# EAGLE library part ATSAMD21G18A-AUT (library samdg)
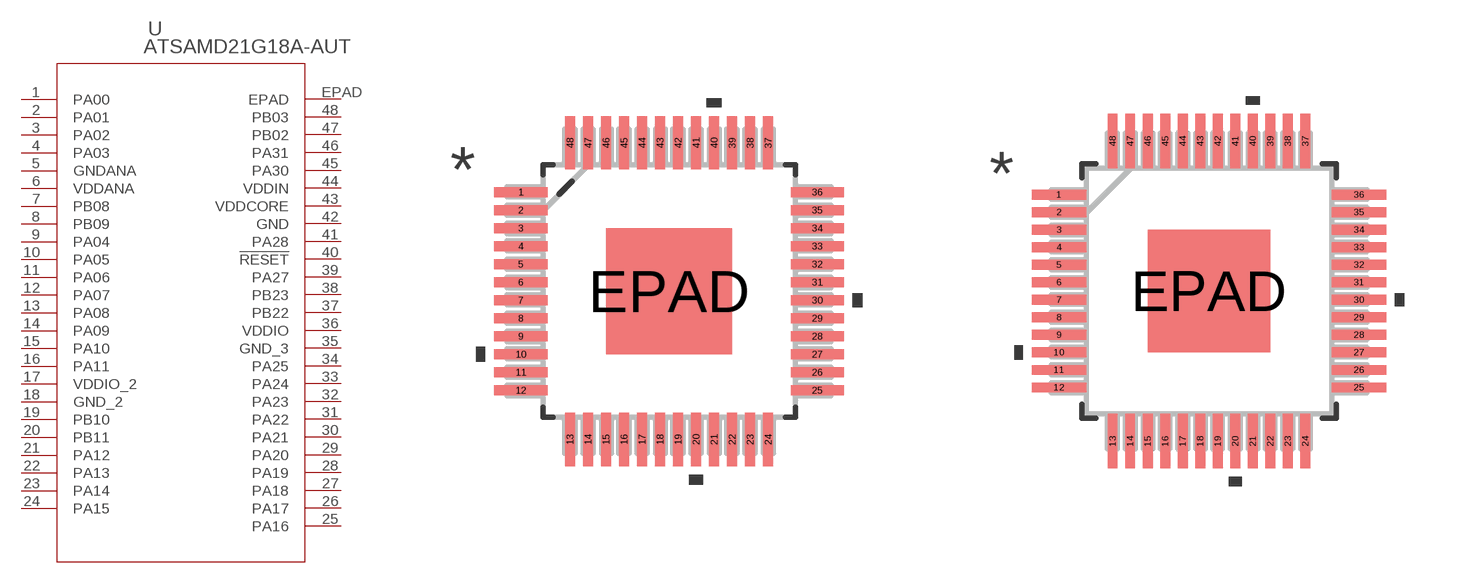
[diagram p0: symbol with the pads of TQFP48_7X7MC; footprints TQFP48_7X7MC, TQFP48_7X7MC-M]

Designator prefix U

## ATSAMD21G18A-AUT (BUILT_BY: EMA_Molly; COPYRIGHT: Copyright (C) 2018 Accelerated Designs. All rights reserved; MANUFACTURER_PART_NUMBER: ATSAMD21G18A-AUT; VENDOR: Microchip)  [TQFP48_7X7MC]
1  PA00
2  PA01
3  PA02
4  PA03
5  GNDANA  pas
6  VDDANA  pwr
7  PB08
8  PB09
9  PA04
10  PA05
11  PA06
12  PA07
13  PA08
14  PA09
15  PA10
16  PA11
17  VDDIO_2  pwr
18  GND_2  pas
19  PB10
20  PB11
21  PA12
22  PA13
23  PA14
24  PA15
25  PA16
26  PA17
27  PA18
28  PA19
29  PA20
30  PA21
31  PA22
32  PA23
33  PA24
34  PA25
35  GND_3  pas
36  VDDIO  pwr
37  PB22
38  PB23
39  PA27
40  !RESET  pas
41  PA28
42  GND  pas
43  VDDCORE  pwr
44  VDDIN  pwr
45  PA30
46  PA31
47  PB02
48  PB03
EPAD  EPAD  pas

## ATSAMD21G18A-AUTTQFP48_7X7MC-M (BUILT_BY: EMA_Molly; COPYRIGHT: Copyright (C) 2018 Accelerated Designs. All rights reserved; MANUFACTURER_PART_NUMBER: ATSAMD21G18A-AUT; VENDOR: Microchip)  [TQFP48_7X7MC-M]
Pads as for TQFP48_7X7MC

## ATSAMD21G18A-AUTTQFP48_7X7MC-L (BUILT_BY: EMA_Molly; COPYRIGHT: Copyright (C) 2018 Accelerated Designs. All rights reserved; MANUFACTURER_PART_NUMBER: ATSAMD21G18A-AUT; VENDOR: Microchip)  [TQFP48_7X7MC-L]
Pads as for TQFP48_7X7MC

## Footprint TQFP48_7X7MC (pad centres in mm)
smd 1.473 x 0.279: 1 -4.115,2.75; 2 -4.115,2.25; 3 -4.115,1.75; 4 -4.115,1.25; 5 -4.115,0.75; 6 -4.115,0.25; 7 -4.115,-0.25; 8 -4.115,-0.75; 9 -4.115,-1.25; 10 -4.115,-1.75; 11 -4.115,-2.25; 12 -4.115,-2.75; 25 4.115,-2.75; 26 4.115,-2.25; 27 4.115,-1.75; 28 4.115,-1.25; 29 4.115,-0.75; 30 4.115,-0.25; 31 4.115,0.25; 32 4.115,0.75; 33 4.115,1.25; 34 4.115,1.75; 35 4.115,2.25; 36 4.115,2.75
smd 0.279 x 1.473: 13 -2.75,-4.115; 14 -2.25,-4.115; 15 -1.75,-4.115; 16 -1.25,-4.115; 17 -0.75,-4.115; 18 -0.25,-4.115; 19 0.25,-4.115; 20 0.75,-4.115; 21 1.25,-4.115; 22 1.75,-4.115; 23 2.25,-4.115; 24 2.75,-4.115; 37 2.75,4.115; 38 2.25,4.115; 39 1.75,4.115; 40 1.25,4.115; 41 0.75,4.115; 42 0.25,4.115; 43 -0.25,4.115; 44 -0.75,4.115; 45 -1.25,4.115; 46 -1.75,4.115; 47 -2.25,4.115; 48 -2.75,4.115
smd 3.505 x 3.505: EPAD 0,0

## Footprint TQFP48_7X7MC-M (pad centres in mm)
smd 1.549 x 0.279: 1 -4.28,2.75; 2 -4.28,2.25; 3 -4.28,1.75; 4 -4.28,1.25; 5 -4.28,0.75; 6 -4.28,0.25; 7 -4.28,-0.25; 8 -4.28,-0.75; 9 -4.28,-1.25; 10 -4.28,-1.75; 11 -4.28,-2.25; 12 -4.28,-2.75; 25 4.28,-2.75; 26 4.28,-2.25; 27 4.28,-1.75; 28 4.28,-1.25; 29 4.28,-0.75; 30 4.28,-0.25; 31 4.28,0.25; 32 4.28,0.75; 33 4.28,1.25; 34 4.28,1.75; 35 4.28,2.25; 36 4.28,2.75
smd 0.279 x 1.549: 13 -2.75,-4.28; 14 -2.25,-4.28; 15 -1.75,-4.28; 16 -1.25,-4.28; 17 -0.75,-4.28; 18 -0.25,-4.28; 19 0.25,-4.28; 20 0.75,-4.28; 21 1.25,-4.28; 22 1.75,-4.28; 23 2.25,-4.28; 24 2.75,-4.28; 37 2.75,4.28; 38 2.25,4.28; 39 1.75,4.28; 40 1.25,4.28; 41 0.75,4.28; 42 0.25,4.28; 43 -0.25,4.28; 44 -0.75,4.28; 45 -1.25,4.28; 46 -1.75,4.28; 47 -2.25,4.28; 48 -2.75,4.28
smd 3.505 x 3.505: EPAD 0,0

## Footprint TQFP48_7X7MC-L (pad centres in mm)
smd 1.143 x 0.178: 1 -4.077,2.75; 2 -4.077,2.25; 3 -4.077,1.75; 4 -4.077,1.25; 5 -4.077,0.75; 6 -4.077,0.25; 7 -4.077,-0.25; 8 -4.077,-0.75; 9 -4.077,-1.25; 10 -4.077,-1.75; 11 -4.077,-2.25; 12 -4.077,-2.75; 25 4.077,-2.75; 26 4.077,-2.25; 27 4.077,-1.75; 28 4.077,-1.25; 29 4.077,-0.75; 30 4.077,-0.25; 31 4.077,0.25; 32 4.077,0.75; 33 4.077,1.25; 34 4.077,1.75; 35 4.077,2.25; 36 4.077,2.75
smd 0.178 x 1.143: 13 -2.75,-4.077; 14 -2.25,-4.077; 15 -1.75,-4.077; 16 -1.25,-4.077; 17 -0.75,-4.077; 18 -0.25,-4.077; 19 0.25,-4.077; 20 0.75,-4.077; 21 1.25,-4.077; 22 1.75,-4.077; 23 2.25,-4.077; 24 2.75,-4.077; 37 2.75,4.077; 38 2.25,4.077; 39 1.75,4.077; 40 1.25,4.077; 41 0.75,4.077; 42 0.25,4.077; 43 -0.25,4.077; 44 -0.75,4.077; 45 -1.25,4.077; 46 -1.75,4.077; 47 -2.25,4.077; 48 -2.75,4.077
smd 3.505 x 3.505: EPAD 0,0